# EAGLE library part PAN1321 (library Miscellaneous)
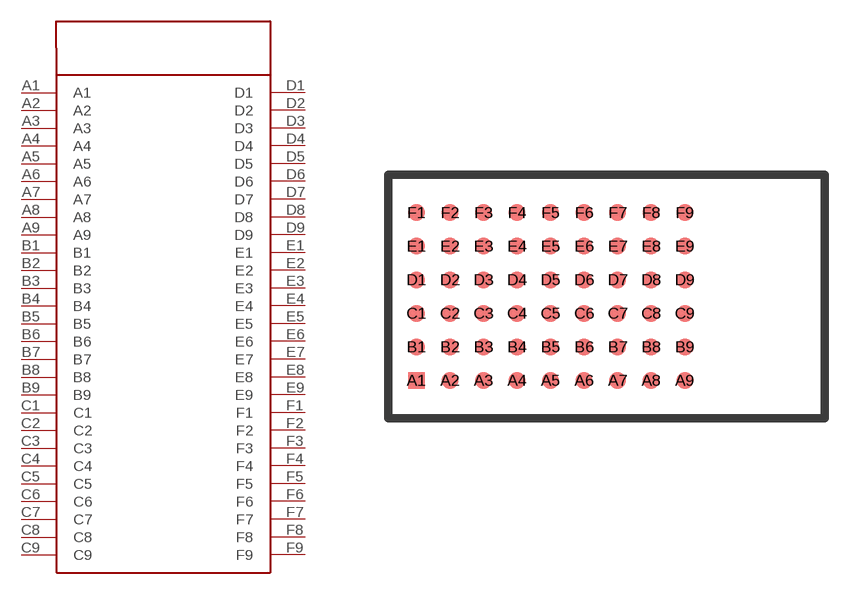
[diagram p1: symbol with the pads of PAN1321; footprint PAN1321]

Designator prefix -

## PAN1321  [PAN1321]
A1  A1
A2  A2
A3  A3
A4  A4
A5  A5
A6  A6
A7  A7
A8  A8
A9  A9
B1  B1
B2  B2
B3  B3
B4  B4
B5  B5
B6  B6
B7  B7
B8  B8
B9  B9
C1  C1
C2  C2
C3  C3
C4  C4
C5  C5
C6  C6
C7  C7
C8  C8
C9  C9
D1  D1
D2  D2
D3  D3
D4  D4
D5  D5
D6  D6
D7  D7
D8  D8
D9  D9
E1  E1
E2  E2
E3  E3
E4  E4
E5  E5
E6  E6
E7  E7
E8  E8
E9  E9
F1  F1
F2  F2
F3  F3
F4  F4
F5  F5
F6  F6
F7  F7
F8  F8
F9  F9

## Footprint PAN1321 (pad centres in mm)
smd 0.6 x 0.6: A1 1,1.35; A2 2.2,1.35; A3 3.4,1.35; A4 4.6,1.35; A5 5.8,1.35; A6 7,1.35; A7 8.2,1.35; A8 9.4,1.35; A9 10.6,1.35; B1 1,2.55; B2 2.2,2.55; B3 3.4,2.55; B4 4.6,2.55; B5 5.8,2.55; B6 7,2.55; B7 8.2,2.55; B8 9.4,2.55; B9 10.6,2.55; C1 1,3.75; C2 2.2,3.75; C3 3.4,3.75; C4 4.6,3.75; C5 5.8,3.75; C6 7,3.75; C7 8.2,3.75; C8 9.4,3.75; C9 10.6,3.75; D1 1,4.95; D2 2.2,4.95; D3 3.4,4.95; D4 4.6,4.95; D5 5.8,4.95; D6 7,4.95; D7 8.2,4.95; D8 9.4,4.95; D9 10.6,4.95; E1 1,6.15; E2 2.2,6.15; E3 3.4,6.15; E4 4.6,6.15; E5 5.8,6.15; E6 7,6.15; E7 8.2,6.15; E8 9.4,6.15; E9 10.6,6.15; F1 1,7.35; F2 2.2,7.35; F3 3.4,7.35; F4 4.6,7.35; F5 5.8,7.35; F6 7,7.35; F7 8.2,7.35; F8 9.4,7.35; F9 10.6,7.35